# Altium footprint library RFM-0505S.PcbLib: 1 footprints
Each footprint in its own frame and in the unit in brackets; x right, y up, seen from the top. Pads: shape width x height; smd on the part's side, far side on the other; paste and mask are expansions set on the pad; w line width, h text height; cw(c..) or ccw(c..) is an arc to the next point about the centre after c.
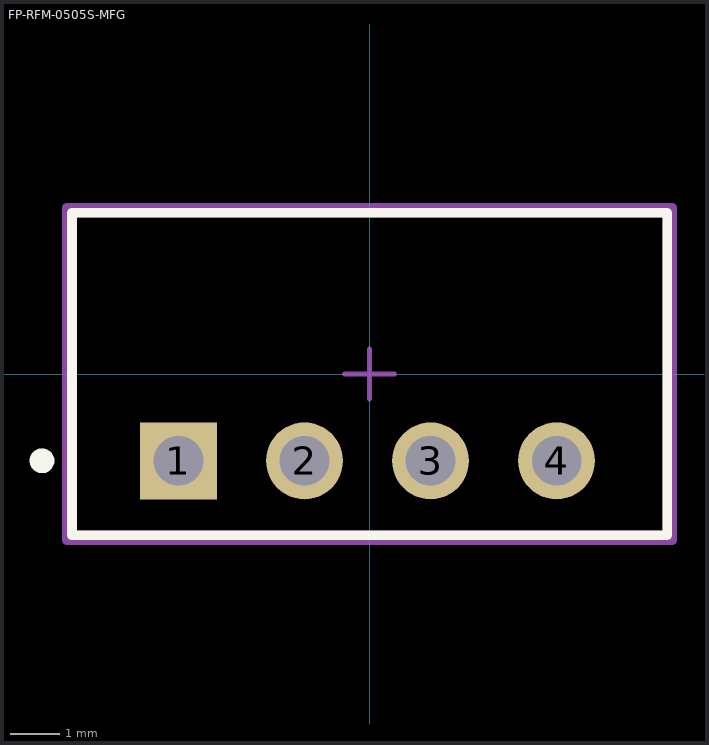
[diagram p0: the footprint, top view; thin cyan lines are the x and y axes]

## FP-RFM-0505S-MFG [mm]
pads (4):
  rect 1.55x1.55 hole 1 paste-2539.97 mask+0: 1(-3.85,-1.75)
  round 1.55 hole 1 paste-2539.97 mask+0: 2(-1.31,-1.75) 3(1.23,-1.75) 4(3.77,-1.75)
Top Overlay:
  circle w0.25: c-6.6,-1.75 r0.125
  lines w0.2: -6,-3.25 -6,3.25 6,3.25 6,-3.25 -6,-3.25
Top Assembly:
  lines w0.2: -6.1,-3.35 -6.1,3.35 6.1,3.35 6.1,-3.35 -6.1,-3.35
  text ".Designator" at 0,0.188 h1
Top 3D Body:
  lines w0.2: -6,-3.25 -6,3.25 6,3.25 6,-3.25 -6,-3.25
Top Courtyard:
  lines w0.2: -6.1,-3.35 -6.1,3.35 6.1,3.35 6.1,-3.35 -6.1,-3.35
Top Component Center:
  lines w0.1: -0.5,0 0.5,0 ; 0,-0.5 0,0.5
3D body "IC_Recom_Power_RFM-0505S_eec.STEP": height 0.25, standoff 0, extent -6.1,-3.35 6.1,3.35